# EAGLE library part ZH_6P_L (library user_conector)
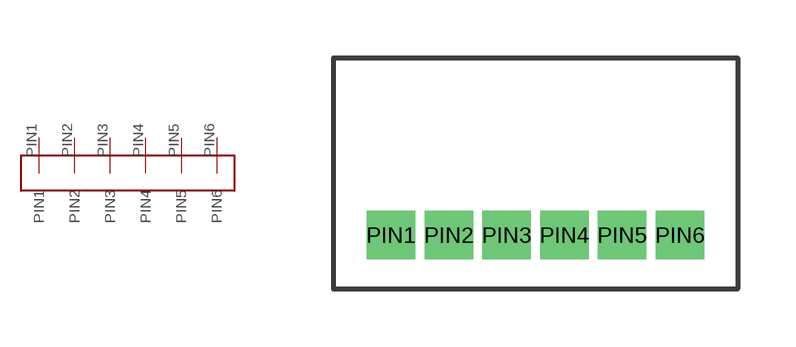
[diagram p0: symbol with the pads of ZH_6P_L; footprint ZH_6P_L]

Designator prefix -

## ZH_6P_L  [ZH_6P_L]
PIN1  PIN1
PIN2  PIN2
PIN3  PIN3
PIN4  PIN4
PIN5  PIN5
PIN6  PIN6

## Footprint ZH_6P_L (pad centres in mm)
drill 0.75 square: PIN1 1.5,0; PIN2 3,0; PIN3 4.5,0; PIN4 6,0; PIN5 7.5,0; PIN6 9,0